# Altium footprint library PCB - POWER INDUCTORS - TDK SPM5020-LR.PcbLib: 1 footprints
Each footprint in its own frame and in the unit in brackets; x right, y up, seen from the top. Pads: shape width x height; smd on the part's side, far side on the other; paste and mask are expansions set on the pad; w line width, h text height; cw(c..) or ccw(c..) is an arc to the next point about the centre after c.
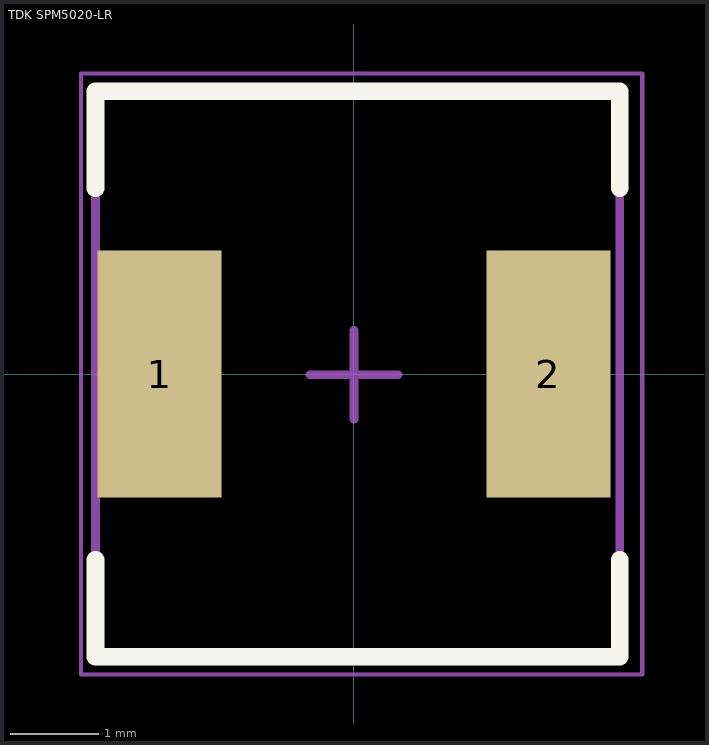
[diagram p0: the footprint, top view; thin cyan lines are the x and y axes]

## TDK SPM5020-LR [mm]
height 3
pads (2):
  rect 1.4x2.8 smd: 1(-2.2,0) 2(2.2,0)
Top Overlay:
  lines w0.2: -2.925,-2.1 -2.925,-3.2 3.007,-3.2 3.007,-2.1 ; -2.925,2.1 -2.925,3.2 3.007,3.2 3.007,2.1
Top Courtyard:
  lines w0.05: -3.089,-3.4 -3.089,3.4 3.261,3.4 3.261,-3.4 -3.089,-3.4
Top Assembly:
  lines w0.1: -2.925,-3.2 3.007,-3.2 3.007,3.2 -2.925,3.2 -2.925,-3.2
Top Component Center:
  lines w0.1: -0.5,-0.008 0.5,-0.008 ; 0,-0.508 0,0.492
3D body "SPM5020T-4R7M-LR.STEP": height 2, standoff 0, extent -2.741,-2.677 2.659,2.423